# Altium footprint library con-neutrik_ag.PCBLIB: 78 footprints (part 3 of 5)
Each footprint in its own frame and in the unit in brackets; x right, y up, seen from the top. Pads: shape width x height; smd on the part's side, far side on the other; paste and mask are expansions set on the pad; w line width, h text height; cw(c..) or ccw(c..) is an arc to the next point about the centre after c.
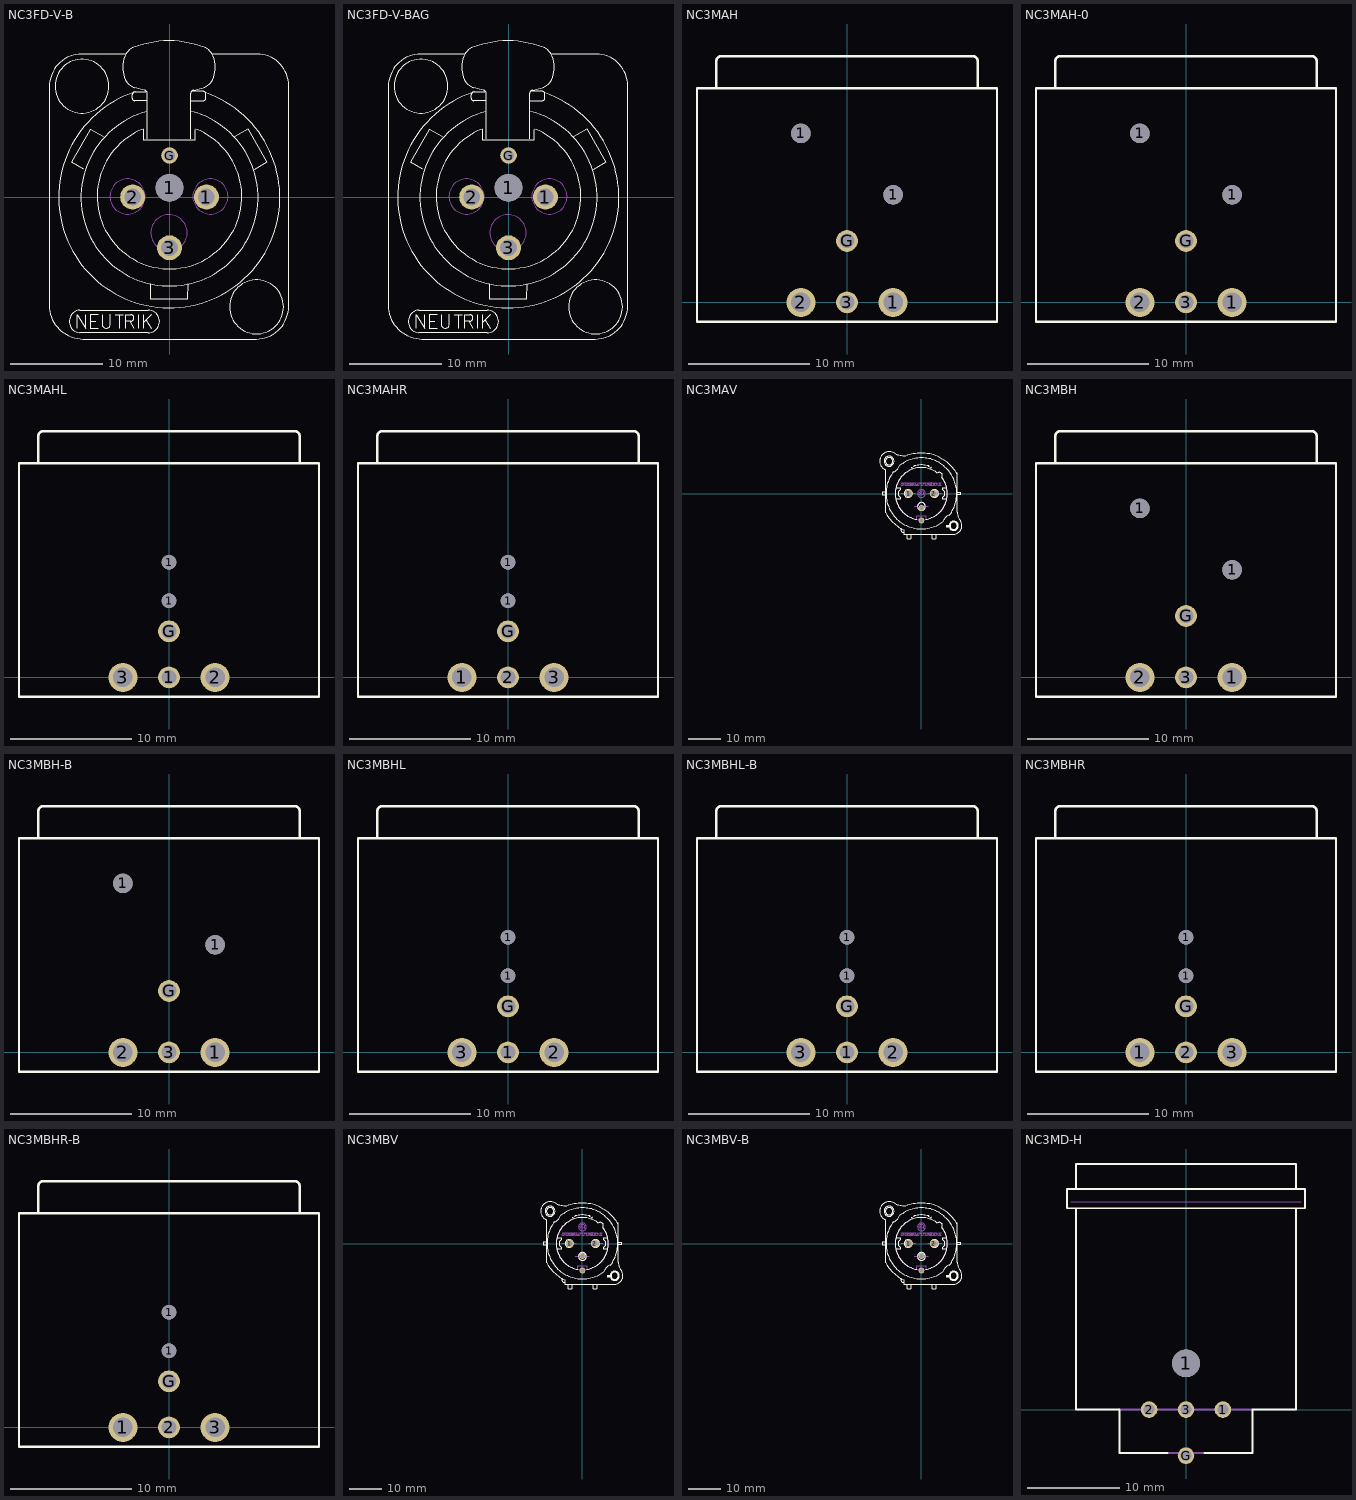
[diagram p2: the footprints below, top view; thin cyan lines are the x and y axes]

## NC3FD-V-B [mm]
pads (5):
  round 3 hole 3: 1(0,1)
  round 2.7 hole 1.8: 1(4,0) 2(-4,0) 3(0,-5.5)
  round 1.8 hole 1.2: G(0,4.5)
Top Overlay:
  circle w0.102: c-9.49,12.018 r2.92
  circle w0.102: c9.434,-11.905 r2.922
  lines w0.102: -9.979,-14.238 -9.979,-12.751 -9.072,-14.213 -9.072,-12.751 ; -9.322,3.033 -10.613,3.763 -8.536,7.357 -7.188,6.57 ; -8.518,-13.457 -7.988,-13.457 ; -7.711,-14.213 -8.568,-14.213 -8.568,-12.751 -7.711,-12.751 ; -7.308,-12.751 -7.308,-13.86 ccw(c-6.857,-13.75) -6.401,-13.835 -6.401,-12.726 ; -5.897,-12.751 -4.99,-12.751 ; -5.443,-14.213 -5.443,-12.776 ; -4.773,15.499 -9.49,15.499 ccw(c-9.49,11.961) -13.028,11.961 -13.028,-11.737 ccw(c-9.378,-11.737) -9.378,-15.387 9.378,-15.387 ccw(c9.378,-11.849) 12.916,-11.849 12.916,12.074 ccw(c9.49,12.074) 9.49,15.499 4.661,15.499 ; -4.738,-14.213 -4.738,-12.751 -4.183,-12.751 cw(c-4.205,-13.104) -4.209,-13.457 -4.309,-13.457 ; -4.687,-13.457 -4.309,-13.457 ; -3.856,-14.213 -4.309,-13.457 ; -3.819,11.343 ccw(c-0.026,-0.026) 3.931,11.288 ; -3.377,-14.213 -3.377,-12.751 ; -2.873,-14.238 -2.873,-12.751 ; -2.822,-13.633 -1.991,-12.751 ; -2.583,11.4 -3.706,11.4 ccw(c-3.706,11.063) -4.043,11.063 -4.043,10.726 ccw(c-3.762,10.726) -3.763,10.445 -2.415,10.445 ; -2.545,-13.381 -1.991,-14.213 ; -2.415,6.29 -2.415,9.266 ; -2.078,-9.378 -2.078,-11.007 1.965,-11.007 2.022,-9.378 ; 2.303,6.29 2.303,10.445 3.65,10.445 ccw(c3.65,10.726) 3.931,10.726 3.931,11.175 ccw(c3.65,11.175) 3.65,11.456 2.358,11.456 ; 2.303,10.445 2.303,11.231 cw(c2.639,11.231) 2.639,11.568 3.65,11.849 ccw(c3.222,13.39) 4.661,12.692 ccw(c1.884,14.041) 4.605,15.499 ccw(c3.227,14.761) 3.763,16.229 ccw(c-0.399,4.814) -0.056,16.959 ccw(c0.287,4.813) -3.875,16.229 ccw(c-3.339,14.76) -4.717,15.499 ccw(c-1.997,14.04) -4.773,12.691 ccw(c-3.335,13.391) -3.763,11.849 -2.752,11.568 cw(c-2.752,11.231) -2.415,11.231 -2.415,10.445 ; 2.415,9.266 cw(c0,-0.028) -2.415,9.266 ; 2.808,7.3 2.808,6.233 -2.864,6.233 -2.864,7.357 ccw(c0,0.056) 2.864,7.357 ; 7.076,6.57 8.48,7.413 10.557,3.763 9.21,2.976 ; -2.415,9.266 -2.415,10.445 ; -9.752,-14.717 -2.319,-14.717 ccw(c-2.319,-13.482) -2.319,-12.247 -9.752,-12.247 ccw(c-9.619,-13.482) -9.752,-14.717
Mechanical 16:
  circle w0.102: c4.436,0.056 r1.909
  circle w0.102: c-4.549,0.056 r1.91
  circle w0.102: c-0.056,-3.875 r1.969

## NC3FD-V-BAG [mm]
pads (5):
  round 3 hole 3: 1(0,1)
  round 2.7 hole 1.8: 1(4,0) 2(-4,0) 3(0,-5.5)
  round 1.8 hole 1.2: G(0,4.5)
Top Overlay:
  circle w0.102: c-9.49,12.018 r2.92
  circle w0.102: c9.434,-11.905 r2.922
  lines w0.102: -9.979,-14.238 -9.979,-12.751 -9.072,-14.213 -9.072,-12.751 ; -9.322,3.033 -10.613,3.763 -8.536,7.357 -7.188,6.57 ; -8.518,-13.457 -7.988,-13.457 ; -7.711,-14.213 -8.568,-14.213 -8.568,-12.751 -7.711,-12.751 ; -7.308,-12.751 -7.308,-13.86 ccw(c-6.857,-13.75) -6.401,-13.835 -6.401,-12.726 ; -5.897,-12.751 -4.99,-12.751 ; -5.443,-14.213 -5.443,-12.776 ; -4.773,15.499 -9.49,15.499 ccw(c-9.49,11.961) -13.028,11.961 -13.028,-11.737 ccw(c-9.378,-11.737) -9.378,-15.387 9.378,-15.387 ccw(c9.378,-11.849) 12.916,-11.849 12.916,12.074 ccw(c9.49,12.074) 9.49,15.499 4.661,15.499 ; -4.738,-14.213 -4.738,-12.751 -4.183,-12.751 cw(c-4.205,-13.104) -4.209,-13.457 -4.309,-13.457 ; -4.687,-13.457 -4.309,-13.457 ; -3.856,-14.213 -4.309,-13.457 ; -3.819,11.343 ccw(c-0.026,-0.026) 3.931,11.288 ; -3.377,-14.213 -3.377,-12.751 ; -2.873,-14.238 -2.873,-12.751 ; -2.822,-13.633 -1.991,-12.751 ; -2.583,11.4 -3.706,11.4 ccw(c-3.706,11.063) -4.043,11.063 -4.043,10.726 ccw(c-3.762,10.726) -3.763,10.445 -2.415,10.445 ; -2.545,-13.381 -1.991,-14.213 ; -2.415,6.29 -2.415,9.266 ; -2.078,-9.378 -2.078,-11.007 1.965,-11.007 2.022,-9.378 ; 2.303,6.29 2.303,10.445 3.65,10.445 ccw(c3.65,10.726) 3.931,10.726 3.931,11.175 ccw(c3.65,11.175) 3.65,11.456 2.358,11.456 ; 2.303,10.445 2.303,11.231 cw(c2.639,11.231) 2.639,11.568 3.65,11.849 ccw(c3.222,13.39) 4.661,12.692 ccw(c1.884,14.041) 4.605,15.499 ccw(c3.227,14.761) 3.763,16.229 ccw(c-0.399,4.814) -0.056,16.959 ccw(c0.287,4.813) -3.875,16.229 ccw(c-3.339,14.76) -4.717,15.499 ccw(c-1.997,14.04) -4.773,12.691 ccw(c-3.335,13.391) -3.763,11.849 -2.752,11.568 cw(c-2.752,11.231) -2.415,11.231 -2.415,10.445 ; 2.415,9.266 cw(c0,-0.028) -2.415,9.266 ; 2.808,7.3 2.808,6.233 -2.864,6.233 -2.864,7.357 ccw(c0,0.056) 2.864,7.357 ; 7.076,6.57 8.48,7.413 10.557,3.763 9.21,2.976 ; -2.415,9.266 -2.415,10.445 ; -9.752,-14.717 -2.319,-14.717 ccw(c-2.319,-13.482) -2.319,-12.247 -9.752,-12.247 ccw(c-9.619,-13.482) -9.752,-14.717
Mechanical 16:
  circle w0.102: c4.436,0.056 r1.909
  circle w0.102: c-4.549,0.056 r1.91
  circle w0.102: c-0.056,-3.875 r1.969

## NC3MAH [mil]
pads (6):
  round 62.99 hole 62.99: 1(-150,550) 1(150,350)
  round 94.48 hole 62.99: 1(150,0) 2(-150,0)
  round 70.86 hole 47.24: 3(0,0) G(0,200)
Top Overlay:
  lines w8: -425.2,700.79 -425.2,785.43 cw(c-409.45,785.43) -409.45,801.18 409.45,801.18 cw(c409.45,785.43) 425.2,785.43 425.2,700.79 ; -488.19,-62.99 -488.19,696.85 488.19,696.85 488.19,-62.99 -488.19,-62.99

## NC3MAH-0 [mil]
pads (6):
  round 62.99 hole 62.99: 1(-150,550) 1(150,350)
  round 94.48 hole 62.99: 1(150,0) 2(-150,0)
  round 70.86 hole 47.24: 3(0,0) G(0,200)
Top Overlay:
  lines w8: -425.2,700.79 -425.2,785.43 cw(c-409.45,785.43) -409.45,801.18 409.45,801.18 cw(c409.45,785.43) 425.2,785.43 425.2,700.79 ; -488.19,-62.99 -488.19,696.85 488.19,696.85 488.19,-62.99 -488.19,-62.99

## NC3MAHL [mil]
pads (6):
  round 70.86 hole 47.24: 1(0,0) G(0,150)
  round 47.24 hole 47.24: 1(0,250) 1(0,374.8)
  round 94.48 hole 62.99: 2(150,0) 3(-150,0)
Top Overlay:
  lines w8: -425.2,700.79 -425.2,785.43 cw(c-409.45,785.43) -409.45,801.18 409.45,801.18 cw(c409.45,785.43) 425.2,785.43 425.2,700.79 ; -488.19,-62.99 -488.19,696.85 488.19,696.85 488.19,-62.99 -488.19,-62.99

## NC3MAHR [mil]
pads (6):
  round 94.48 hole 62.99: 1(-150,0) 3(150,0)
  round 47.24 hole 47.24: 1(0,250) 1(0,374.8)
  round 70.86 hole 47.24: 2(0,0) G(0,150)
Top Overlay:
  lines w8: -425.2,700.79 -425.2,785.43 cw(c-409.45,785.43) -409.45,801.18 409.45,801.18 cw(c409.45,785.43) 425.2,785.43 425.2,700.79 ; -488.19,-62.99 -488.19,696.85 488.19,696.85 488.19,-62.99 -488.19,-62.99

## NC3MAV [mil]
pads (4):
  round 94.48 hole 62.99: 1(-150,0) 2(150,0)
  round 70.86 hole 47.24: 3(0,-175.2) G(0,-324.8)
Top Overlay:
  circle w4: c-159.06,0 r46.85
  circle w4: c159.45,0 r46.85
  circle w4: c0,-155.51 r47.24
  circle w4: c-389.37,389.37 r44.09
  circle w4: c-389.37,389.37 r61.02
  circle w4: c389.37,-389.37 r55.91
  circle w4: c389.37,-389.37 r44.09
  rectangle: 295.28,-409.06 347.64,-381.5
  lines w4: -432.68,-17.72 -470.08,-17.72 -470.08,17.72 -432.68,17.72 ; -430.71,-232.68 -430.71,-217.32 ; -430.71,-216.54 -430.71,276.77 ccw(c-440.01,276.77) -436.61,285.43 cw(c-388.63,388.77) -349.21,495.67 cw(c-1012.01,-1011.89) -321.26,483.07 ccw(c-210.4,707.94) -173.21,460 ; -430.32,-233.86 ccw(c4.87,6.16) -214.57,-439.76 -214.57,-489.37 390.55,-489.37 ccw(c388.17,-388.21) 474.02,-334.65 cw(c646.61,-201.56) 430.32,-228.35 430.32,245.67 424.02,245.67 ; -303.15,-66.54 -255.51,-66.54 -255.51,-44.09 -279.13,-20.47 -279.13,20.87 -255.51,44.49 -255.51,66.93 -303.15,66.93 ; -259.84,338.19 cw(c-386.01,386.25) -338.58,259.84 ccw(c0.11,0.12) 258.27,-339.76 cw(c389.17,-390.35) 338.58,-259.45 ccw(c-0.61,0.14) 212.2,370.47 213.39,374.41 ccw(c1.09,-0.86) -212.6,373.62 -211.02,370.47 ccw(c-11.59,14.88) -259.45,338.58 ; -244.88,-425.59 ccw(c-216.26,-438.36) -216.93,-469.69 ; -177.17,-491.73 -177.17,-541.73 -170.47,-548.43 -129.13,-548.43 -122.44,-541.73 -122.44,-490.94 ; -173.13,460.02 cw(c-5.34,-54.16) 170.05,457.48 ; -109.06,297.64 -115.75,318.11 -85.04,326.77 -87.01,333.07 cw(c-0.91,14.61) 86.61,332.68 85.04,327.56 116.54,317.32 108.27,296.06 ; -56.3,-311.42 cw(c-1.02,-1.98) -71.65,304.33 cw(c-0.71,-7.4) 68.5,304.72 ; 53.54,-311.42 ccw(c-0.86,-1.94) 245.67,192.91 ccw(c216.57,216.57) 192.91,245.67 ccw(c-3.55,-5.06) 68.9,305.12 ; 122.05,-491.73 122.05,-541.34 129.13,-548.43 170.47,-548.43 177.17,-541.73 177.17,-491.34 ; 170.14,457.45 cw(c-13.99,-17.77) 430.32,231.89 ; 303.15,-66.93 255.51,-66.93 255.51,-44.49 279.13,-20.87 279.13,20.47 255.51,44.09 255.51,66.54 303.15,66.54 ; 431.89,-17.72 470.08,-17.72 470.08,17.72 431.89,17.72
Mechanical 16:
  circle w4: c-159.45,0 r47.24
  circle w4: c159.45,0 r46.85
  circle w4: c0,-155.12 r47.24
  circle w7.09: c0,0 r47.48
  rectangle: -245.67,-5.91 -206.69,5.91
  rectangle: -112.2,-5.91 -72.83,5.91
  rectangle: 72.83,-5.91 112.2,5.91
  rectangle: 206.69,-5.91 245.67,5.91
  rectangle: -86.61,-161.42 -46.46,-149.61
  rectangle: 46.85,-161.02 86.61,-149.61
  lines w1: -56.98,97.32 ccw(c-56.96,210.74) -43.26,98.15 ccw(c-50.64,159.12) -33.35,100.2 ccw(c-41.23,126.92) -25.08,104.22 ccw(c-27.16,107.15) -23.65,106.39 -18.46,129.76 -40.04,129.76 -44.5,109.6 cw(c-46.69,110.11) -45.11,108.51 cw(c-51.25,114.66) -47.93,106.63 cw(c-54.31,122) -51.49,105.6 cw(c-56.32,133.83) -56.33,105.19 cw(c-56.34,133.83) -61.17,105.6 cw(c-58.36,122.05) -64.74,106.63 cw(c-61.42,114.66) -67.56,108.51 cw(c-65.97,110.1) -68.22,110.1 cw(c-65.95,110.1) -68.15,110.62 -63.91,129.76 -85.48,129.76 -90.33,107.92 ccw(c-86.77,107.16) -90.41,107.15 ccw(c-86.82,107.16) -88.89,104.22 ccw(c-72.75,126.91) -80.62,100.2 ccw(c-63.33,159.12) -70.71,98.16 ccw(c-57.01,210.84) -56.98,97.33 ; 93.86,106.95 ccw(c92.73,106.65) 93.49,107.54 ccw(c91.99,105.75) 92.62,108 ccw(c91.63,104.61) 91.67,108.14 72.9,108.14 70.72,98.31 49.09,98.31 56.07,129.76 111.26,129.76 cw(c111.17,112.06) 116,129.09 cw(c112.86,117.98) 120.31,126.8 cw(c116.59,122.39) 122.16,123.89 cw(c116.58,122.39) 122.02,120.44 cw(c111.15,124.36) 119.43,116.3 cw(c106.74,128.66) 115.28,113.14 cw(c102.52,136.05) 113.85,112.4 cw(c109.78,106.43) 114.43,111.96 cw(c112.09,109.21) 115.58,110.13 cw(c112.12,109.18) 115.7,108.93 115.19,101.6 ccw(c120.09,101.24) 116.15,98.31 94.26,98.31 ; 93.9,106.57 93.5,100.82 ccw(c98.22,100.88) 94.26,98.31 ; 94.26,98.31 94.26,98.31 ; -241.87,98.31 -234.89,129.76 -209.34,129.76 -189.78,116 -186.73,129.76 -165.1,129.76 -172.08,98.31 -196.65,98.31 -216.32,116 -220.24,98.31 -241.87,98.31 ; -161.26,98.31 -154.29,129.76 -95.31,129.76 -96.97,122.29 -134.32,122.29 -135.32,117.77 -100.92,117.77 -102.57,110.3 -136.98,110.3 -137.98,105.78 -100.63,105.78 -102.29,98.31 -161.26,98.31 ; -14.48,121.9 5.17,121.9 -0.06,98.31 21.57,98.31 26.8,121.9 47.44,121.9 49.19,129.76 -12.74,129.76 -14.48,121.9 ; 74.56,115.61 91.36,115.61 ccw(c91.36,124.41) 93.64,115.91 ccw(c91.39,124.45) 95.62,116.71 ccw(c92.76,121.91) 97.01,117.77 ccw(c94.23,120.48) 97.88,119.16 ccw(c96.05,119.82) 97.93,120.32 ccw(c96.05,119.82) 97.31,121.3 ccw(c94.81,118.34) 95.86,122.07 ccw(c94.26,116.35) 94.27,122.29 76.04,122.29 74.56,115.61 ; 125.77,98.31 132.74,129.76 154.37,129.76 147.39,98.31 125.77,98.31 ; 160.17,98.31 167.14,129.76 187.79,129.76 185.43,119.12 210.39,129.76 237.92,129.76 212.54,118.95 232.91,98.31 203.42,98.31 191.78,110.1 182.56,106.17 180.81,98.31 160.17,98.31
  lines w4: -71.65,304.33 ccw(c-0.98,-1.97) 245.67,192.91 ; -56.3,-309.84 -56.3,-269.69 53.15,-269.69 53.15,-309.45
  lines w5.91: -24.02,-18.5 cw(c2.08,-0.19) -26.38,14.17 -12.6,6.69 ; -18.11,24.02 cw(c0.04,-2.18) 14.96,25.98 ; 0,-29.92 0,29.13 ; 12.2,-6.69 25.59,-14.17 ccw(c0,0.74) 24.8,16.93

## NC3MBH [mil]
pads (6):
  round 62.99 hole 62.99: 1(-150,550) 1(150,350)
  round 94.48 hole 62.99: 1(150,0) 2(-150,0)
  round 70.86 hole 47.24: 3(0,0) G(0,200)
Top Overlay:
  lines w8: -425.2,700.79 -425.2,785.43 cw(c-409.45,785.43) -409.45,801.18 409.45,801.18 cw(c409.45,785.43) 425.2,785.43 425.2,700.79 ; -488.19,-62.99 -488.19,696.85 488.19,696.85 488.19,-62.99 -488.19,-62.99

## NC3MBH-B [mil]
pads (6):
  round 62.99 hole 62.99: 1(-150,550) 1(150,350)
  round 94.48 hole 62.99: 1(150,0) 2(-150,0)
  round 70.86 hole 47.24: 3(0,0) G(0,200)
Top Overlay:
  lines w8: -425.2,700.79 -425.2,785.43 cw(c-409.45,785.43) -409.45,801.18 409.45,801.18 cw(c409.45,785.43) 425.2,785.43 425.2,700.79 ; -488.19,-62.99 -488.19,696.85 488.19,696.85 488.19,-62.99 -488.19,-62.99

## NC3MBHL [mil]
pads (6):
  round 70.86 hole 47.24: 1(0,0) G(0,150)
  round 47.24 hole 47.24: 1(0,250) 1(0,374.8)
  round 94.48 hole 62.99: 2(150,0) 3(-150,0)
Top Overlay:
  lines w8: -425.2,700.79 -425.2,785.43 cw(c-409.45,785.43) -409.45,801.18 409.45,801.18 cw(c409.45,785.43) 425.2,785.43 425.2,700.79 ; -488.19,-62.99 -488.19,696.85 488.19,696.85 488.19,-62.99 -488.19,-62.99

## NC3MBHL-B [mil]
pads (6):
  round 70.86 hole 47.24: 1(0,0) G(0,150)
  round 47.24 hole 47.24: 1(0,250) 1(0,374.8)
  round 94.48 hole 62.99: 2(150,0) 3(-150,0)
Top Overlay:
  lines w8: -425.2,700.79 -425.2,785.43 cw(c-409.45,785.43) -409.45,801.18 409.45,801.18 cw(c409.45,785.43) 425.2,785.43 425.2,700.79 ; -488.19,-62.99 -488.19,696.85 488.19,696.85 488.19,-62.99 -488.19,-62.99

## NC3MBHR [mil]
pads (6):
  round 94.48 hole 62.99: 1(-150,0) 3(150,0)
  round 47.24 hole 47.24: 1(0,250) 1(0,374.8)
  round 70.86 hole 47.24: 2(0,0) G(0,150)
Top Overlay:
  lines w8: -425.2,700.79 -425.2,785.43 cw(c-409.45,785.43) -409.45,801.18 409.45,801.18 cw(c409.45,785.43) 425.2,785.43 425.2,700.79 ; -488.19,-62.99 -488.19,696.85 488.19,696.85 488.19,-62.99 -488.19,-62.99

## NC3MBHR-B [mil]
pads (6):
  round 94.48 hole 62.99: 1(-150,0) 3(150,0)
  round 47.24 hole 47.24: 1(0,250) 1(0,374.8)
  round 70.86 hole 47.24: 2(0,0) G(0,150)
Top Overlay:
  lines w8: -425.2,700.79 -425.2,785.43 cw(c-409.45,785.43) -409.45,801.18 409.45,801.18 cw(c409.45,785.43) 425.2,785.43 425.2,700.79 ; -488.19,-62.99 -488.19,696.85 488.19,696.85 488.19,-62.99 -488.19,-62.99

## NC3MBV [mil]
pads (4):
  round 94.48 hole 62.99: 1(-150,0) 2(150,0)
  round 70.86 hole 47.24: 3(0,-150) G(0,-324.8)
Top Overlay:
  circle w4: c-159.06,0 r46.85
  circle w4: c159.45,0 r46.85
  circle w4: c0,-155.51 r47.24
  circle w4: c-389.37,389.37 r44.09
  circle w4: c-389.37,389.37 r61.02
  circle w4: c389.37,-389.37 r55.91
  circle w4: c389.37,-389.37 r44.09
  rectangle: 295.28,-409.06 347.64,-381.5
  lines w4: -432.68,-17.72 -470.08,-17.72 -470.08,17.72 -432.68,17.72 ; -430.71,-232.68 -430.71,-217.32 ; -430.71,-216.54 -430.71,276.77 ccw(c-440.01,276.77) -436.61,285.43 cw(c-388.63,388.77) -349.21,495.67 cw(c-1012.01,-1011.89) -321.26,483.07 ccw(c-210.4,707.94) -173.21,460 ; -430.32,-233.86 ccw(c4.87,6.16) -214.57,-439.76 -214.57,-489.37 390.55,-489.37 ccw(c388.17,-388.21) 474.02,-334.65 cw(c646.61,-201.56) 430.32,-228.35 430.32,245.67 424.02,245.67 ; -303.15,-66.54 -255.51,-66.54 -255.51,-44.09 -279.13,-20.47 -279.13,20.87 -255.51,44.49 -255.51,66.93 -303.15,66.93 ; -259.84,338.19 cw(c-386.01,386.25) -338.58,259.84 ccw(c0.11,0.12) 258.27,-339.76 cw(c389.17,-390.35) 338.58,-259.45 ccw(c-0.61,0.14) 212.2,370.47 213.39,374.41 ccw(c1.09,-0.86) -212.6,373.62 -211.02,370.47 ccw(c-11.59,14.88) -259.45,338.58 ; -244.88,-425.59 ccw(c-216.26,-438.36) -216.93,-469.69 ; -177.17,-491.73 -177.17,-541.73 -170.47,-548.43 -129.13,-548.43 -122.44,-541.73 -122.44,-490.94 ; -173.13,460.02 cw(c-5.34,-54.16) 170.05,457.48 ; -109.06,297.64 -115.75,318.11 -85.04,326.77 -87.01,333.07 cw(c-0.91,15.15) 86.61,332.68 85.04,327.56 116.54,317.32 108.27,296.06 ; -56.3,-311.42 cw(c-1.02,-1.98) -71.65,304.33 cw(c-0.71,-8.01) 68.5,304.72 ; 53.54,-311.42 ccw(c-0.86,-1.94) 245.67,192.91 ccw(c216.57,216.57) 192.91,245.67 ccw(c-3.55,-5.06) 68.9,305.12 ; 122.05,-491.73 122.05,-541.34 129.13,-548.43 170.47,-548.43 177.17,-541.73 177.17,-491.34 ; 170.14,457.45 cw(c-13.98,-17.77) 430.32,231.89 ; 303.15,-66.93 255.51,-66.93 255.51,-44.49 279.13,-20.87 279.13,20.47 255.51,44.09 255.51,66.54 303.15,66.54 ; 431.89,-17.72 470.08,-17.72 470.08,17.72 431.89,17.72
Mechanical 16:
  circle w4: c-159.45,0 r47.24
  circle w4: c159.45,0 r46.85
  circle w4: c0,-155.12 r47.24
  circle w7.09: c0,200 r47.48
  rectangle: -245.67,-5.91 -206.69,5.91
  rectangle: -112.2,-5.91 -72.83,5.91
  rectangle: 72.83,-5.91 112.2,5.91
  rectangle: 206.69,-5.91 245.67,5.91
  rectangle: -86.61,-161.42 -46.46,-149.61
  rectangle: 46.85,-161.02 86.61,-149.61
  lines w1: -56.98,97.32 ccw(c-56.96,210.74) -43.26,98.15 ccw(c-50.64,159.12) -33.35,100.2 ccw(c-41.23,126.92) -25.08,104.22 ccw(c-27.16,107.15) -23.65,106.39 -18.46,129.76 -40.04,129.76 -44.5,109.6 cw(c-46.69,110.11) -45.11,108.51 cw(c-51.25,114.66) -47.93,106.63 cw(c-54.31,122) -51.49,105.6 cw(c-56.32,133.83) -56.33,105.19 cw(c-56.34,133.83) -61.17,105.6 cw(c-58.36,122.05) -64.74,106.63 cw(c-61.42,114.66) -67.56,108.51 cw(c-65.97,110.1) -68.22,110.1 cw(c-65.95,110.1) -68.15,110.62 -63.91,129.76 -85.48,129.76 -90.33,107.92 ccw(c-86.77,107.16) -90.41,107.15 ccw(c-86.82,107.16) -88.89,104.22 ccw(c-72.75,126.91) -80.62,100.2 ccw(c-63.33,159.12) -70.71,98.16 ccw(c-57.01,210.84) -56.98,97.33 ; 93.86,106.95 ccw(c92.73,106.65) 93.49,107.54 ccw(c91.99,105.75) 92.62,108 ccw(c91.63,104.61) 91.67,108.14 72.9,108.14 70.72,98.31 49.09,98.31 56.07,129.76 111.26,129.76 cw(c111.17,112.06) 116,129.09 cw(c112.86,117.98) 120.31,126.8 cw(c116.59,122.39) 122.16,123.89 cw(c116.58,122.39) 122.02,120.44 cw(c111.15,124.36) 119.43,116.3 cw(c106.74,128.66) 115.28,113.14 cw(c102.52,136.05) 113.85,112.4 cw(c109.78,106.43) 114.43,111.96 cw(c112.09,109.21) 115.58,110.13 cw(c112.12,109.18) 115.7,108.93 115.19,101.6 ccw(c120.09,101.24) 116.15,98.31 94.26,98.31 ; 93.9,106.57 93.5,100.82 ccw(c98.22,100.88) 94.26,98.31 ; 94.26,98.31 94.26,98.31 ; -241.87,98.31 -234.89,129.76 -209.34,129.76 -189.78,116 -186.73,129.76 -165.1,129.76 -172.08,98.31 -196.65,98.31 -216.32,116 -220.24,98.31 -241.87,98.31 ; -161.26,98.31 -154.29,129.76 -95.31,129.76 -96.97,122.29 -134.32,122.29 -135.32,117.77 -100.92,117.77 -102.57,110.3 -136.98,110.3 -137.98,105.78 -100.63,105.78 -102.29,98.31 -161.26,98.31 ; -14.48,121.9 5.17,121.9 -0.06,98.31 21.57,98.31 26.8,121.9 47.44,121.9 49.19,129.76 -12.74,129.76 -14.48,121.9 ; 74.56,115.61 91.36,115.61 ccw(c91.36,124.41) 93.64,115.91 ccw(c91.39,124.45) 95.62,116.71 ccw(c92.76,121.91) 97.01,117.77 ccw(c94.23,120.48) 97.88,119.16 ccw(c96.05,119.82) 97.93,120.32 ccw(c96.05,119.82) 97.31,121.3 ccw(c94.81,118.34) 95.86,122.07 ccw(c94.26,116.35) 94.27,122.29 76.04,122.29 74.56,115.61 ; 125.77,98.31 132.74,129.76 154.37,129.76 147.39,98.31 125.77,98.31 ; 160.17,98.31 167.14,129.76 187.79,129.76 185.43,119.12 210.39,129.76 237.92,129.76 212.54,118.95 232.91,98.31 203.42,98.31 191.78,110.1 182.56,106.17 180.81,98.31 160.17,98.31
  lines w4: -71.65,304.33 ccw(c-0.98,-1.97) 245.67,192.91 ; -56.3,-309.84 -56.3,-269.69 53.15,-269.69 53.15,-309.45
  lines w5.91: -24.02,181.5 cw(c2.08,199.81) -26.38,214.17 -12.6,206.69 ; -18.11,224.02 cw(c0.04,197.82) 14.96,225.98 ; 0,170.08 0,229.13 ; 12.2,193.31 25.59,185.83 ccw(c0,200.74) 24.8,216.93

## NC3MBV-B [mil]
pads (4):
  round 94.48 hole 62.99: 1(-150,0) 2(150,0)
  round 70.86 hole 47.24: 3(0,-150) G(0,-324.8)
Top Overlay:
  circle w4: c-159.06,0 r46.85
  circle w4: c159.45,0 r46.85
  circle w4: c0,-155.51 r47.24
  circle w4: c-389.37,389.37 r44.09
  circle w4: c-389.37,389.37 r61.02
  circle w4: c389.37,-389.37 r55.91
  circle w4: c389.37,-389.37 r44.09
  rectangle: 295.28,-409.06 347.64,-381.5
  lines w4: -432.68,-17.72 -470.08,-17.72 -470.08,17.72 -432.68,17.72 ; -430.71,-232.68 -430.71,-217.32 ; -430.71,-216.54 -430.71,276.77 ccw(c-440.01,276.77) -436.61,285.43 cw(c-388.63,388.77) -349.21,495.67 cw(c-1012.01,-1011.89) -321.26,483.07 ccw(c-210.4,707.94) -173.21,460 ; -430.32,-233.86 ccw(c4.87,6.16) -214.57,-439.76 -214.57,-489.37 390.55,-489.37 ccw(c388.17,-388.21) 474.02,-334.65 cw(c646.61,-201.56) 430.32,-228.35 430.32,245.67 424.02,245.67 ; -303.15,-66.54 -255.51,-66.54 -255.51,-44.09 -279.13,-20.47 -279.13,20.87 -255.51,44.49 -255.51,66.93 -303.15,66.93 ; -259.84,338.19 cw(c-386.01,386.24) -338.58,259.84 ccw(c0.11,0.12) 258.27,-339.76 cw(c389.17,-390.35) 338.58,-259.45 ccw(c-0.61,0.14) 212.2,370.47 213.39,374.41 ccw(c1.09,-0.86) -212.6,373.62 -211.02,370.47 ccw(c-11.59,14.88) -259.45,338.58 ; -244.88,-425.59 ccw(c-216.26,-438.36) -216.93,-469.69 ; -177.17,-491.73 -177.17,-541.73 -170.47,-548.43 -129.13,-548.43 -122.44,-541.73 -122.44,-490.94 ; -173.13,460.02 cw(c-5.34,-54.16) 170.05,457.48 ; -109.06,297.64 -115.75,318.11 -85.04,326.77 -87.01,333.07 cw(c-0.91,15.15) 86.61,332.68 85.04,327.56 116.54,317.32 108.27,296.06 ; -56.3,-311.42 cw(c-1.02,-1.98) -71.65,304.33 cw(c-0.71,-8.01) 68.5,304.72 ; 53.54,-311.42 ccw(c-0.86,-1.94) 245.67,192.91 ccw(c216.57,216.57) 192.91,245.67 ccw(c-3.55,-5.06) 68.9,305.12 ; 122.05,-491.73 122.05,-541.34 129.13,-548.43 170.47,-548.43 177.17,-541.73 177.17,-491.34 ; 170.14,457.45 cw(c-13.98,-17.76) 430.32,231.89 ; 303.15,-66.93 255.51,-66.93 255.51,-44.49 279.13,-20.87 279.13,20.47 255.51,44.09 255.51,66.54 303.15,66.54 ; 431.89,-17.72 470.08,-17.72 470.08,17.72 431.89,17.72
Mechanical 16:
  circle w4: c-159.45,0 r47.24
  circle w4: c159.45,0 r46.85
  circle w4: c0,-155.12 r47.24
  circle w7.09: c0,200 r47.48
  rectangle: -245.67,-5.91 -206.69,5.91
  rectangle: -112.2,-5.91 -72.83,5.91
  rectangle: 72.83,-5.91 112.2,5.91
  rectangle: 206.69,-5.91 245.67,5.91
  rectangle: -86.61,-161.42 -46.46,-149.61
  rectangle: 46.85,-161.02 86.61,-149.61
  lines w1: -56.98,97.32 ccw(c-56.96,210.74) -43.26,98.15 ccw(c-50.64,159.12) -33.35,100.2 ccw(c-41.23,126.92) -25.08,104.22 ccw(c-27.16,107.15) -23.65,106.39 -18.46,129.76 -40.04,129.76 -44.5,109.6 cw(c-46.69,110.11) -45.11,108.51 cw(c-51.25,114.66) -47.93,106.63 cw(c-54.31,122) -51.49,105.6 cw(c-56.32,133.83) -56.33,105.19 cw(c-56.34,133.83) -61.17,105.6 cw(c-58.36,122.05) -64.74,106.63 cw(c-61.42,114.66) -67.56,108.51 cw(c-65.97,110.1) -68.22,110.1 cw(c-65.95,110.1) -68.15,110.62 -63.91,129.76 -85.48,129.76 -90.33,107.92 ccw(c-86.77,107.16) -90.41,107.15 ccw(c-86.82,107.16) -88.89,104.22 ccw(c-72.75,126.91) -80.62,100.2 ccw(c-63.33,159.12) -70.71,98.16 ccw(c-57.01,210.84) -56.98,97.33 ; 93.86,106.95 ccw(c92.73,106.65) 93.49,107.54 ccw(c91.99,105.75) 92.62,108 ccw(c91.63,104.61) 91.67,108.14 72.9,108.14 70.72,98.31 49.09,98.31 56.07,129.76 111.26,129.76 cw(c111.17,112.06) 116,129.09 cw(c112.86,117.98) 120.31,126.8 cw(c116.59,122.39) 122.16,123.89 cw(c116.58,122.39) 122.02,120.44 cw(c111.15,124.36) 119.43,116.3 cw(c106.74,128.66) 115.28,113.14 cw(c102.52,136.05) 113.85,112.4 cw(c109.78,106.43) 114.43,111.96 cw(c112.09,109.21) 115.58,110.13 cw(c112.12,109.18) 115.7,108.93 115.19,101.6 ccw(c120.09,101.24) 116.15,98.31 94.26,98.31 ; 93.9,106.57 93.5,100.82 ccw(c98.22,100.88) 94.26,98.31 ; 94.26,98.31 94.26,98.31 ; -241.87,98.31 -234.89,129.76 -209.34,129.76 -189.78,116 -186.73,129.76 -165.1,129.76 -172.08,98.31 -196.65,98.31 -216.32,116 -220.24,98.31 -241.87,98.31 ; -161.26,98.31 -154.29,129.76 -95.31,129.76 -96.97,122.29 -134.32,122.29 -135.32,117.77 -100.92,117.77 -102.57,110.3 -136.98,110.3 -137.98,105.78 -100.63,105.78 -102.29,98.31 -161.26,98.31 ; -14.48,121.9 5.17,121.9 -0.06,98.31 21.57,98.31 26.8,121.9 47.44,121.9 49.19,129.76 -12.74,129.76 -14.48,121.9 ; 74.56,115.61 91.36,115.61 ccw(c91.36,124.41) 93.64,115.91 ccw(c91.39,124.45) 95.62,116.71 ccw(c92.76,121.91) 97.01,117.77 ccw(c94.23,120.48) 97.88,119.16 ccw(c96.05,119.82) 97.93,120.32 ccw(c96.05,119.82) 97.31,121.3 ccw(c94.81,118.34) 95.86,122.07 ccw(c94.26,116.35) 94.27,122.29 76.04,122.29 74.56,115.61 ; 125.77,98.31 132.74,129.76 154.37,129.76 147.39,98.31 125.77,98.31 ; 160.17,98.31 167.14,129.76 187.79,129.76 185.43,119.12 210.39,129.76 237.92,129.76 212.54,118.95 232.91,98.31 203.42,98.31 191.78,110.1 182.56,106.17 180.81,98.31 160.17,98.31
  lines w4: -71.65,304.33 ccw(c-0.98,-1.97) 245.67,192.91 ; -56.3,-309.84 -56.3,-269.69 53.15,-269.69 53.15,-309.45
  lines w5.91: -24.02,181.5 cw(c2.08,199.81) -26.38,214.17 -12.6,206.69 ; -18.11,224.02 cw(c0.04,197.82) 14.96,225.98 ; 0,170.08 0,229.13 ; 12.2,193.31 25.59,185.83 ccw(c0,200.74) 24.8,216.93

## NC3MD-H [mm]
pads (5):
  round 3 hole 3: 1(0,5)
  round 1.8 hole 1.2: 1(4,0) 2(-4,0) 3(0,0) G(0,-5)
Top Overlay:
  lines w0.203: -11.9,21.7 -11.9,0 -7.2,0 -7.2,-4.7 -2,-4.7 ; -11.9,24 -11.9,26.6 11.9,26.6 11.9,24 ; 2,-4.7 7.2,-4.7 7.2,0 11.9,0 11.9,21.7 ; -12.9,21.8 12.9,21.8 12.9,23.9 -12.9,23.9 -12.9,21.8
Mechanical 14:
  lines w0: -12.5,22.5 12.5,22.5
Mechanical 16:
  lines w0.203: -7.2,-4.7 7.2,-4.7 ; -7.2,0 7.2,0